# Altium schematic symbol library IP5389_AABC_DEMO_V1.2.SCHLIB: 48 symbols
Pins are listed as number, name and electrical type; pins without a type are passive.

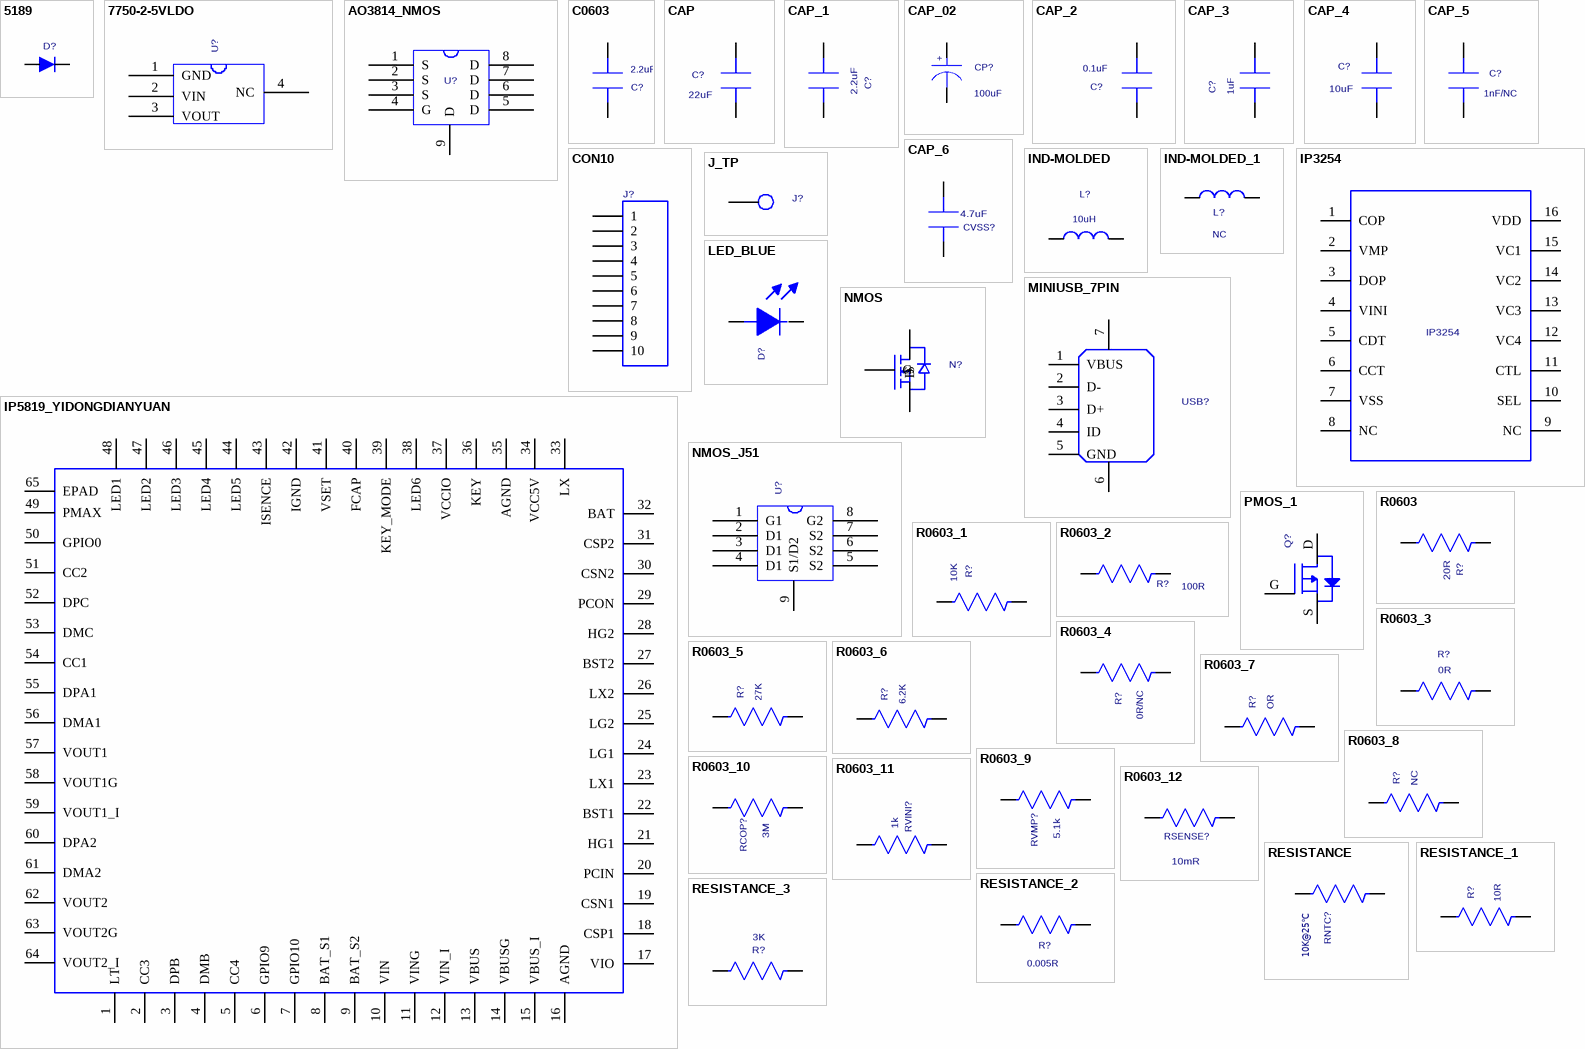
[diagram p0: symbols 5189 to RESISTANCE_3]

## 5189
designator D?  (value not drawn)
Part_Field_Name_1: SS34/NC; Part_Field_Name_10: 1N5189; Part_Field_Name_11: Part Field 11; VALUE: IN4148; PCB DECAL: SOD-123A; Part_Field_Name_2: Part Field 2; Part_Field_Name_3: Part Field 3; Part_Field_Name_4: Part Field 4; Part_Field_Name_5: Part Field 5; Part_Field_Name_6: Part Field 6; Part_Field_Name_7: Part Field 7; Part_Field_Name_8: Part Field 8; Part_Field_Name_9: Part Field 9; Part_Field_Name_12: Part Field 12; Part_Field_Name_13: Part Field 13; Part_Field_Name_14: Part Field 14; Part_Field_Name_15: Part Field 15; Part_Field_Name_16: Part Field 16
footprint SOD-123A
pins: A 1, K 2

## 7750-2-5VLDO
designator U?  (value not drawn)
PCB DECAL: SOT-89
footprint SOT-89
pins: 1 GND, 2 VIN, 3 VOUT, 4 NC

## AO3814_NMOS
designator U?  (value not drawn)
锂电NMOS; Value: AO3814; model: LB; PCB DECAL: MOS_9
footprint MOS_9
pins: 1 S, 2 S, 3 S, 4 G, 5 D, 6 D, 7 D, 8 D, 9 D

## C0603
designator C?  value 2.2uF  (hidden comment: C0603)
Capacitor; PCB DECAL: 0603C; Publisher: Altium Limited; PackageReference: RAD-0.3; LatestRevisionNote: Re-released for DXP Platform.; LatestRevisionDate: 17-Jul-2002; Published: 8-Jun-2000
footprint 0603C
pins: 1, 2

## CAP
designator C?  value 22uF  (hidden comment: CAP)
Capacitor; PCB DECAL: 0805C; Publisher: Altium Limited; PackageReference: RAD-0.3; LatestRevisionNote: Re-released for DXP Platform.; LatestRevisionDate: 17-Jul-2002; Published: 8-Jun-2000
footprint 0805C
pins: 1, 2

## CAP_1
designator C?, comment value 2.2uF  (hidden comment: CAP)
Capacitor; PCB DECAL: 0603C; Publisher: Altium Limited; PackageReference: RAD-0.3; LatestRevisionNote: Re-released for DXP Platform.; LatestRevisionDate: 17-Jul-2002; Published: 8-Jun-2000
footprint 0603C
pins: 1, 2

## CAP_02
designator CP?  value 100uF  (hidden comment: CAP_02)
插件电容; Tolerance: 10%; PCB DECAL: CAP-5-5
footprint CAP-5-5
pins: 1 (io), 2 (io)
text: +

## CAP_2
designator C?, comment value 0.1uF  (hidden comment: CAP)
Capacitor; PCB DECAL: 0805C; Publisher: Altium Limited; PackageReference: RAD-0.3; LatestRevisionNote: Re-released for DXP Platform.; LatestRevisionDate: 17-Jul-2002; Published: 8-Jun-2000
footprint 0805C
pins: 1, 2

## CAP_3
designator C?, comment value 1uF  (hidden comment: CAP)
Capacitor; PCB DECAL: 0805C; Publisher: Altium Limited; PackageReference: RAD-0.3; LatestRevisionNote: Re-released for DXP Platform.; LatestRevisionDate: 17-Jul-2002; Published: 8-Jun-2000
footprint 0805C
pins: 1, 2

## CAP_4
designator C?, comment value 10uF  (hidden comment: CAP)
Capacitor; PCB DECAL: 0805C; Publisher: Altium Limited; PackageReference: RAD-0.3; LatestRevisionNote: Re-released for DXP Platform.; LatestRevisionDate: 17-Jul-2002; Published: 8-Jun-2000
footprint 0805C
pins: 1, 2

## CAP_5
designator C?, comment value 1nF/NC  (hidden comment: CAP)
Capacitor; PCB DECAL: 0805C; Publisher: Altium Limited; PackageReference: RAD-0.3; LatestRevisionNote: Re-released for DXP Platform.; LatestRevisionDate: 17-Jul-2002; Published: 8-Jun-2000
footprint 0805C
pins: 1, 2

## CAP_6
designator CVSS?, comment value 4.7uF  (hidden comment: CAP)
Capacitor; PCB DECAL: 0603C; Publisher: Altium Limited; PackageReference: RAD-0.3; LatestRevisionNote: Re-released for DXP Platform.; LatestRevisionDate: 17-Jul-2002; Published: 8-Jun-2000
footprint 0603C
pins: 1, 2

## CON10
designator J?  (value not drawn)
Connector; PCB DECAL: LIGHTNING_M
footprint LIGHTNING_M
pins: 1, 2, 3, 4, 5, 6, 7, 8, 9, 10

## IND-MOLDED
designator L?  value 10uH  (hidden comment: IND-MOLDED)
电感; PCB DECAL: SMT_IND_4-4; Sim.Analog.Order: Model$; Sim.Analog.Prefix: L
footprint SMT_IND_4-4
pins: 1, 2

## IND-MOLDED_1
designator L?, comment value NC  (hidden comment: IND-MOLDED)
电感; PCB DECAL: SMT_IND_4-4; Sim.Analog.Order: Model$; Sim.Analog.Prefix: L
footprint SMT_IND_4-4
pins: 1, 2

## IP3254
designator U?
PCB DECAL: SOP16
footprint SOP16
pins: 1 COP, 2 VMP, 3 DOP, 4 VINI, 5 CDT, 6 CCT, 7 VSS, 8 NC, 9 NC, 10 SEL, 11 CTL, 12 VC4, 13 VC3, 14 VC2, 15 VC1, 16 VDD

## IP5819_YIDONGDIANYUAN
designator U?  (value not drawn)
PCB DECAL: QFN64
footprint QFN64
pins: 1 LT, 2 CC3, 3 DPB, 4 DMB, 5 CC4, 6 GPIO9, 7 GPIO10, 8 BAT_S1, 9 BAT_S2, 10 VIN, 11 VING, 12 VIN_I, 13 VBUS, 14 VBUSG, 15 VBUS_I, 16 AGND, 17 VIO, 18 CSP1, 19 CSN1, 20 PCIN, 21 HG1, 22 BST1, 23 LX1, 24 LG1, 25 LG2, 26 LX2, 27 BST2, 28 HG2, 29 PCON, 30 CSN2, 31 CSP2, 32 BAT, 33 LX, 34 VCC5V, 35 AGND, 36 KEY, 37 VCCIO, 38 LED6, 39 KEY_MODE, 40 FCAP, 41 VSET, 42 IGND, 43 ISENCE, 44 LED5, 45 LED4, 46 LED3, 47 LED2, 48 LED1, 49 PMAX, 50 GPIO0, 51 CC2, 52 DPC, 53 DMC, 54 CC1, 55 DPA1, 56 DMA1, 57 VOUT1, 58 VOUT1G, 59 VOUT1_I, 60 DPA2, 61 DMA2, 62 VOUT2, 63 VOUT2G, 64 VOUT2_I, 65 EPAD

## J_TP
designator J?  (value not drawn)
PCB DECAL: BATPAD_3_4
footprint BATPAD_3_4
pins: 1

## LED_BLUE
designator D?  (value not drawn)
LED; Sim.Analog.Prefix: BLUE; PCB DECAL: 0603-D
footprint 0603-D
pins: A, K

## MINIUSB_7PIN
designator USB?  (value not drawn)
Micro_USB; PCB DECAL: MICRO-5.9
footprint MICRO-5.9
pins: 1 VBUS, 2 D-, 3 D+, 4 ID, 5 GND, 6, 7

## NMOS
designator N?  (value not drawn)
PCB DECAL: SOT_23; Value: NMOS
footprint SOT_23
pins: 1 G, 2 S, 3 D

## NMOS_J51
designator U?  (value not drawn)
锂电NMOS; Value: AO3814; model: LB; PCB DECAL: MOS_J51_1
footprint MOS_J51_1
pins: 1 G1, 2 D1, 3 D1, 4 D1, 5 S2, 6 S2, 7 S2, 8 G2, 9 S1/D2

## PMOS_1
designator Q?  (value not drawn)
PCB DECAL: SOT23
footprint SOT23
pins: D 3, G 1, S 2

## R0603
designator R?  value 20R  (hidden comment: R0603)
Resistor; PCB DECAL: 0603R
footprint 0603R
pins: 1, 2

## R0603_1
designator R?, comment value 10K  (hidden comment: R0603)
Resistor; PCB DECAL: 0603R
footprint 0603R
pins: 1, 2

## R0603_2
designator R?, comment value 100R  (hidden comment: R0603)
Resistor; PCB DECAL: 0603R
footprint 0603R
pins: 1, 2

## R0603_3
designator R?, comment value 0R  (hidden comment: R0603)
Resistor; PCB DECAL: 0603R
footprint 0603R
pins: 1, 2

## R0603_4
designator R?, comment value 0R/NC  (hidden comment: R0603)
Resistor; PCB DECAL: 0603R
footprint 0603R
pins: 1, 2

## R0603_5
designator R?, comment value 27K  (hidden comment: R0603)
Resistor; PCB DECAL: 0603R
footprint 0603R
pins: 1, 2

## R0603_6
designator R?, comment value 6.2K  (hidden comment: R0603)
Resistor; PCB DECAL: 0603R
footprint 0603R
pins: 1, 2

## R0603_7
designator R?, comment value OR  (hidden comment: R0603)
Resistor; PCB DECAL: 0603R
footprint 0603R
pins: 1, 2

## R0603_8
designator R?, comment value NC  (hidden comment: R0603)
Resistor; PCB DECAL: 0603R
footprint 0603R
pins: 1, 2

## R0603_9
designator RVMP?, comment value 5.1k  (hidden comment: R0603)
Resistor; PCB DECAL: 0603R
footprint 0603R
pins: 1, 2

## R0603_10
designator RCOP?, comment value 3M  (hidden comment: R0603)
Resistor; PCB DECAL: 0603R
footprint 0603R
pins: 1, 2

## R0603_11
designator RVINI?, comment value 1k  (hidden comment: R0603)
Resistor; PCB DECAL: 0603R
footprint 0603R
pins: 1, 2

## R0603_12
designator RSENSE?, comment value 10mR  (hidden comment: R0603)
Resistor; PCB DECAL: 1206R
footprint 1206R
pins: 1, 2

## RESISTANCE
designator RNTC?  value 10K@25℃  (hidden comment: RESISTANCE)
贴片电阻; Tolerance: 5%; PCB DECAL: 0805R
footprint 0805R
pins: 1, 2

## RESISTANCE_1
designator R?, comment value 10R  (hidden comment: RESISTANCE)
贴片电阻; Tolerance: 1%; PCB DECAL: 1206R
footprint 1206R
pins: 1, 2

## RESISTANCE_2
designator R?, comment value 0.005R  (hidden comment: RESISTANCE)
贴片电阻; Tolerance: 1%; PCB DECAL: 1206R
footprint 1206R
pins: 1, 2

## RESISTANCE_3
designator R?, comment value 3K  (hidden comment: RESISTANCE)
贴片电阻; Tolerance: 5%; PCB DECAL: 0603R
footprint 0603R
pins: 1, 2

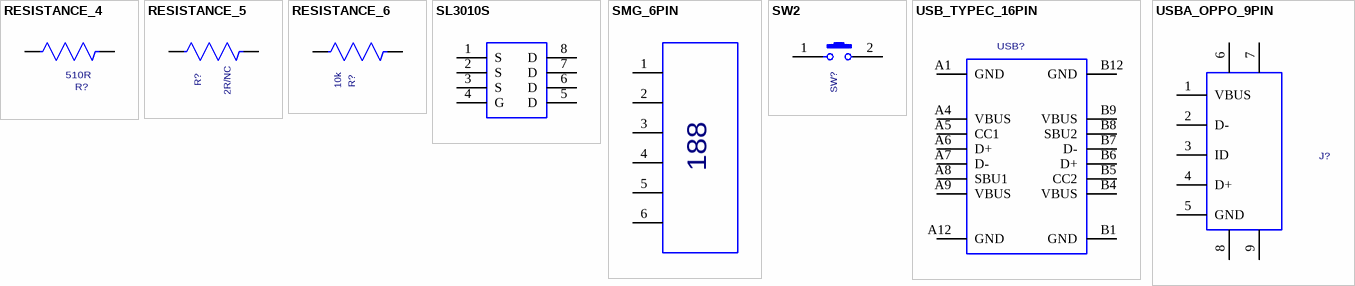
[diagram p1: symbols RESISTANCE_4 to USBA_OPPO_9PIN]

## RESISTANCE_4
designator R?, comment value 510R  (hidden comment: RESISTANCE)
贴片电阻; Tolerance: 5%; PCB DECAL: 0603R
footprint 0603R
pins: 1, 2

## RESISTANCE_5
designator R?, comment value 2R/NC  (hidden comment: RESISTANCE)
贴片电阻; Tolerance: 1%; PCB DECAL: 1206R
footprint 1206R
pins: 1, 2

## RESISTANCE_6
designator R?, comment value 10k  (hidden comment: RESISTANCE)
贴片电阻; Tolerance: 5%; PCB DECAL: 0805R
footprint 0805R
pins: 1, 2

## SL3010S
designator N?  (value not drawn)
Value: DUAL NMOS; PCB DECAL: SOP8
footprint SOP8
pins: 1 S, 2 S, 3 S, 4 G, 5 D, 6 D, 7 D, 8 D

## SMG_6PIN
designator U?  (value not drawn)
PCB DECAL: YF2252SR-6
footprint YF2252SR-6
pins: 1, 2, 3, 4, 5, 6
text: 188

## SW2
designator SW?  (value not drawn)
PCB DECAL: SW4_SMT_3_6
footprint SW4_SMT_3_6
pins: 1, 2

## USB_TYPEC_16PIN
designator USB?  (value not drawn)
PCB DECAL: USB-TYPEC-1
footprint USB-TYPEC-1
pins: A1 GND, A4 VBUS, A5 CC1, A6 D+, A7 D-, A8 SBU1, A9 VBUS, A12 GND, B1 GND, B4 VBUS, B5 CC2, B6 D+, B7 D-, B8 SBU2, B9 VBUS, B12 GND

## USBA_OPPO_9PIN
designator J?  (value not drawn)
USB母座; PCB DECAL: USBA_OPPO_5PIN_6.3
footprint USBA_OPPO_5PIN_6.3
pins: 1 VBUS, 2 D-, 3 ID, 4 D+, 5 GND, 6, 7, 8, 9